# Altium integrated library WE_WR-TBL_Spring Clamp System_5.08 mm_rev15a.IntLib: 11 symbols
Pins are listed as number, name and electrical type; pins without a type are passive.

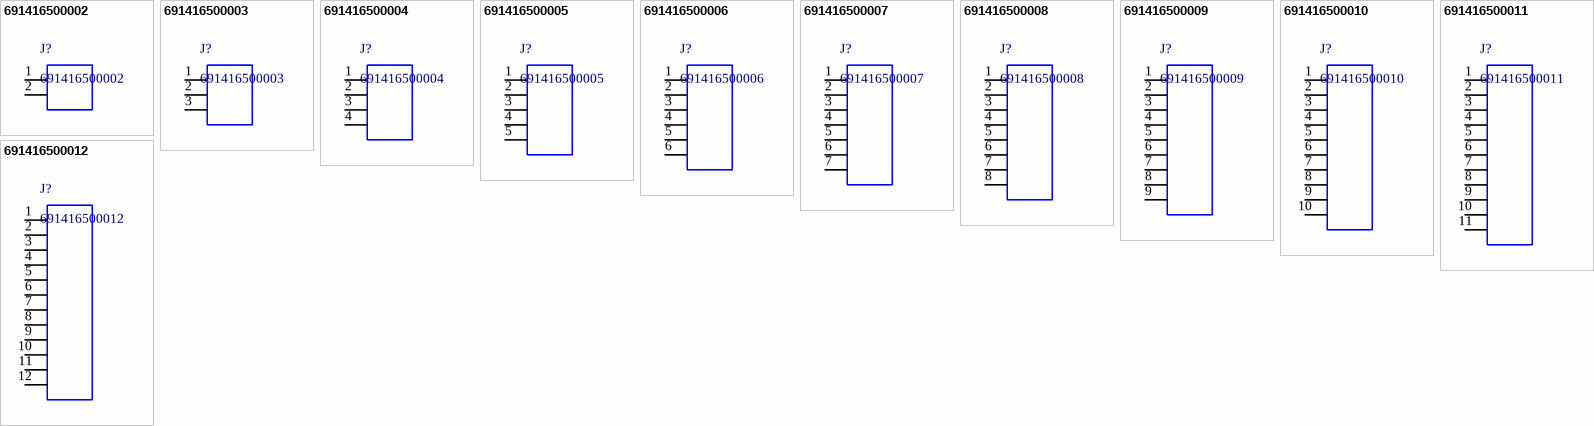
[diagram p0: symbols 691416500002 to 691416500012]

## 691416500002
designator J?
WR-TBL Vertical Cable Entry Screwless, Serie 4165 - 5.08 mm; Manufacturer: Wurth Elektronik; ComponentLink1 Description: Manufacturer; ComponentLink2 Description: Datasheet; ComponentLink1URL: http://www.we-online.de; ComponentLink2URL: http://katalog.we-online.de/em/datasheet/6914165000xx.pdf; Created by: Baojun Chen; Created Date: 8.Sep.2015; partNo: 691416500002
footprint 691416500002 (Serie 4165 - 5.08 mm _ 2 pins)
pins: 1, 2

## 691416500003
designator J?
WR-TBL Vertical Cable Entry Screwless, Serie 4165 - 5.08 mm; Manufacturer: Wurth Elektronik; ComponentLink1 Description: Manufacturer; ComponentLink2 Description: Datasheet; ComponentLink1URL: http://www.we-online.de; ComponentLink2URL: http://katalog.we-online.de/em/datasheet/6914165000xx.pdf; Created by: Baojun Chen; Created Date: 8.Sep.2015; partNo: 691416500003
footprint 691416500003 (Serie 4165 - 5.08 mm _ 3 pins)
pins: 1, 2, 3

## 691416500004
designator J?
WR-TBL Vertical Cable Entry Screwless, Serie 4165 - 5.08 mm; Manufacturer: Wurth Elektronik; ComponentLink1 Description: Manufacturer; ComponentLink2 Description: Datasheet; ComponentLink1URL: http://www.we-online.de; ComponentLink2URL: http://katalog.we-online.de/em/datasheet/6914165000xx.pdf; Created by: Baojun Chen; Created Date: 8.Sep.2015; partNo: 691416500004
footprint 691416500004 (Serie 4165 - 5.08 mm _ 4 pins)
pins: 1, 2, 3, 4

## 691416500005
designator J?
WR-TBL Vertical Cable Entry Screwless, Serie 4165 - 5.08 mm; Manufacturer: Wurth Elektronik; ComponentLink1 Description: Manufacturer; ComponentLink2 Description: Datasheet; ComponentLink1URL: http://www.we-online.de; ComponentLink2URL: http://katalog.we-online.de/em/datasheet/6914165000xx.pdf; Created by: Baojun Chen; Created Date: 8.Sep.2015; partNo: 691416500005
footprint 691416500005 (Serie 4165 - 5.08 mm _ 5 pins)
pins: 1, 2, 3, 4, 5

## 691416500006
designator J?
WR-TBL Vertical Cable Entry Screwless, Serie 4165 - 5.08 mm; Manufacturer: Wurth Elektronik; ComponentLink1 Description: Manufacturer; ComponentLink2 Description: Datasheet; ComponentLink1URL: http://www.we-online.de; ComponentLink2URL: http://katalog.we-online.de/em/datasheet/6914165000xx.pdf; Created by: Baojun Chen; Created Date: 8.Sep.2015; partNo: 691416500006
footprint 691416500006 (Serie 4165 - 5.08 mm _ 6 pins)
pins: 1, 2, 3, 4, 5, 6

## 691416500007
designator J?
WR-TBL Vertical Cable Entry Screwless, Serie 4165 - 5.08 mm; Manufacturer: Wurth Elektronik; ComponentLink1 Description: Manufacturer; ComponentLink2 Description: Datasheet; ComponentLink1URL: http://www.we-online.de; ComponentLink2URL: http://katalog.we-online.de/em/datasheet/6914165000xx.pdf; Created by: Baojun Chen; Created Date: 8.Sep.2015; partNo: 691416500007
footprint 691416500007 (Serie 4165 - 5.08 mm _ 7 pins)
pins: 1, 2, 3, 4, 5, 6, 7

## 691416500008
designator J?
WR-TBL Vertical Cable Entry Screwless, Serie 4165 - 5.08 mm; Manufacturer: Wurth Elektronik; ComponentLink1 Description: Manufacturer; ComponentLink2 Description: Datasheet; ComponentLink1URL: http://www.we-online.de; ComponentLink2URL: http://katalog.we-online.de/em/datasheet/6914165000xx.pdf; Created by: Baojun Chen; Created Date: 8.Sep.2015; partNo: 691416500008
footprint 691416500008 (Serie 4165 - 5.08 mm _ 8 pins)
pins: 1, 2, 3, 4, 5, 6, 7, 8

## 691416500009
designator J?
WR-TBL Vertical Cable Entry Screwless, Serie 4165 - 5.08 mm; Manufacturer: Wurth Elektronik; ComponentLink1 Description: Manufacturer; ComponentLink2 Description: Datasheet; ComponentLink1URL: http://www.we-online.de; ComponentLink2URL: http://katalog.we-online.de/em/datasheet/6914165000xx.pdf; Created by: Baojun Chen; Created Date: 8.Sep.2015; partNo: 691416500009
footprint 691416500009 (Serie 4165 - 5.08 mm _ 9 pins)
pins: 1, 2, 3, 4, 5, 6, 7, 8, 9

## 691416500010
designator J?
WR-TBL Vertical Cable Entry Screwless, Serie 4165 - 5.08 mm; Manufacturer: Wurth Elektronik; ComponentLink1 Description: Manufacturer; ComponentLink2 Description: Datasheet; ComponentLink1URL: http://www.we-online.de; ComponentLink2URL: http://katalog.we-online.de/em/datasheet/6914165000xx.pdf; Created by: Baojun Chen; Created Date: 8.Sep.2015; partNo: 691416500010
footprint 691416500010 (Serie 4165 - 5.08 mm _ 10 pins)
pins: 1, 2, 3, 4, 5, 6, 7, 8, 9, 10

## 691416500011
designator J?
WR-TBL Vertical Cable Entry Screwless, Serie 4165 - 5.08 mm; Manufacturer: Wurth Elektronik; ComponentLink1 Description: Manufacturer; ComponentLink2 Description: Datasheet; ComponentLink1URL: http://www.we-online.de; ComponentLink2URL: http://katalog.we-online.de/em/datasheet/6914165000xx.pdf; Created by: Baojun Chen; Created Date: 8.Sep.2015; partNo: 691416500011
footprint 691416500011 (Serie 4165 - 5.08 mm _ 11 pins)
pins: 1, 2, 3, 4, 5, 6, 7, 8, 9, 10, 11

## 691416500012
designator J?
WR-TBL Vertical Cable Entry Screwless, Serie 4165 - 5.08 mm; Manufacturer: Wurth Elektronik; ComponentLink1 Description: Manufacturer; ComponentLink2 Description: Datasheet; ComponentLink1URL: http://www.we-online.de; ComponentLink2URL: http://katalog.we-online.de/em/datasheet/6914165000xx.pdf; Created by: Baojun Chen; Created Date: 8.Sep.2015; partNo: 691416500012
footprint 691416500012 (Serie 4165 - 5.08 mm _ 12 pins)
pins: 1, 2, 3, 4, 5, 6, 7, 8, 9, 10, 11, 12